# Altium footprint library MICROSD.PcbLib: 2 footprints
Each footprint in its own frame and in the unit in brackets; x right, y up, seen from the top. Pads: shape width x height; smd on the part's side, far side on the other; paste and mask are expansions set on the pad; w line width, h text height; cw(c..) or ccw(c..) is an arc to the next point about the centre after c.
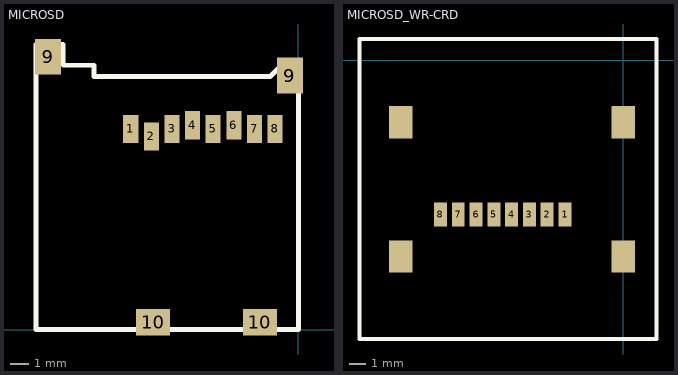
[diagram p0: the footprints below, top view; thin cyan lines are the x and y axes]

## MICROSD [mm]
height 1.8
pads (12):
  rect 0.8x1.5 smd: 1(-8.94,10.7) 2(-7.84,10.3) 3(-6.74,10.7) 4(-5.64,10.9) 5(-4.54,10.7) 6(-3.44,10.9) 7(-2.34,10.7) 8(-1.24,10.7)
  rect 1.4x1.9 smd: 9(-13.35,14.55) 9(-0.45,13.55)
  rect 1.8x1.4 smd: 10(-7.75,0.4) 10(-2.05,0.4)
Top Overlay:
  lines w0.254: -14,0 0,0 0,14.2 -0.8,14.2 -1.5,13.5 -10.9,13.5 -10.9,14.1 -12.54,14.1 -12.54,15.2 -14,15.2 -14,0

## MICROSD_WR-CRD [mm] "Micro SD from Würth Electronics, WR-CRD"
pads (12):
  rect 0.8x1.5 smd: 1(-3.6,-9.55) 2(-4.7,-9.55) 3(-5.8,-9.55) 4(-6.9,-9.55) 5(-8,-9.55) 6(-9.1,-9.55) 7(-10.2,-9.55) 8(-11.3,-9.55)
  rect 1.45x2 smd: ""(-13.75,-12.15) ""(-13.75,-3.85) ""(0,-12.15) ""(0,-3.85)
Top Overlay:
  lines w0.254: -16.3,-17.25 -16.3,1.3 2.05,1.3 2.05,-17.25 -16.3,-17.25